# Altium schematic symbol library Arkx.SchLib: 534 symbols (part 4 of 5)
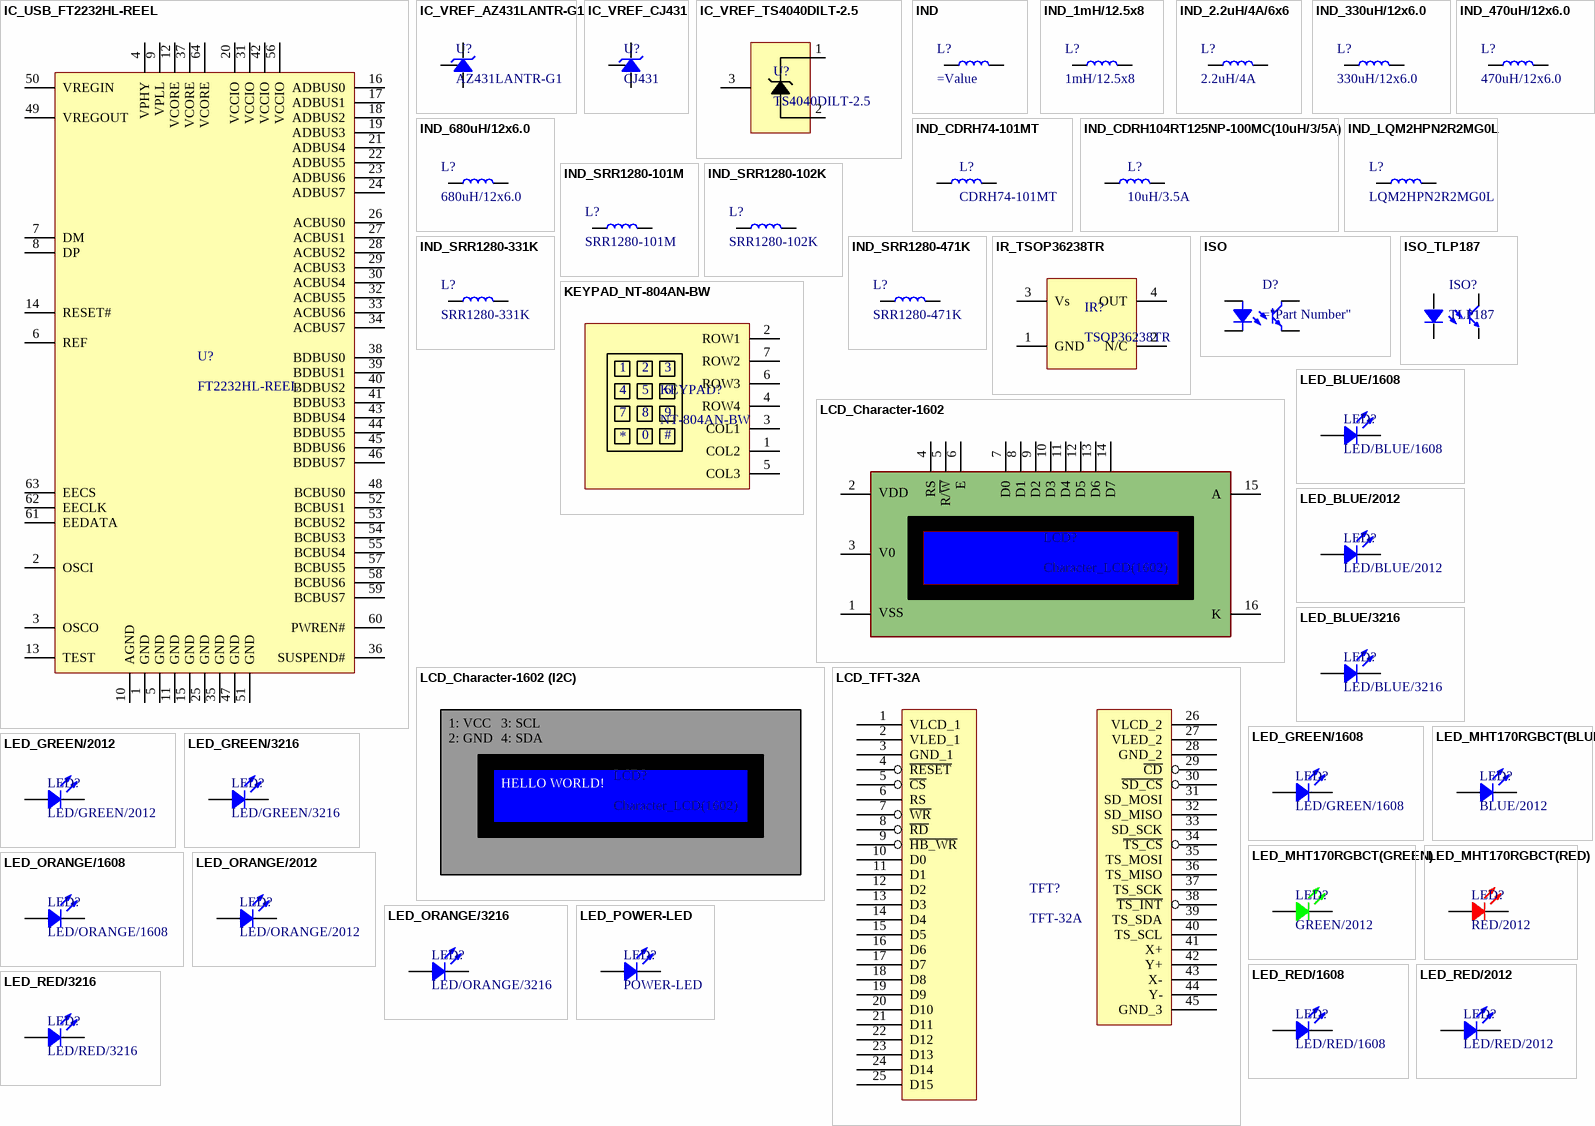
[diagram p28: symbols IC_USB_FT2232HL-REEL to LED_RED/3216]

## LED_GREEN/2012
designator LED?, comment LED/GREEN/2012
LED_GREEN/2012; Supplier 1: Mouser; Supplier 2: Digi-Key; Supplier Part Number 1: 710-150080GS75000; Supplier Part Number 2: 732-4983-1-ND
footprint LED 0805_2012 GREEN (Chip Diode, 2-Leads, Body 2.00x1.25mm, IPC Medium Density)
pins: 1, 2

## LED_GREEN/3216
designator LED?, comment LED/GREEN/3216
LED_GREEN/3216; Supplier 1: Mouser; Supplier 2: Digi-Key; Supplier Part Number 1: 710-150120GS75000; Supplier Part Number 2: 732-4990-1-ND; LCSC Part #: C14641; JLCPCB Part Type: Extended Part
footprint LED 1206_3216 GREEN (Chip Diode, 2-Leads, Body 3.13x1.55mm, IPC Medium Density)
pins: 1, 2

## LED_MHT170RGBCT(BLUE)
designator LED?, comment BLUE/2012
Colorless transparence -30℃~+85℃ Positive post Common anode RGB 120° 0805  Light Emitting Diodes (LED) ROHS; LCSC Part #: C2962094; JLCPCB Part Type: Extended Part
footprint LED MHT170RGBCT (BLUE) (Colorless transparence -30℃~+85℃ Positive post Common anode RGB 120° 0805  Light Emitting Diodes (LED) ROHS)
pins: 3 BLUE, 4 Common_Anode

## LED_MHT170RGBCT(GREEN)
designator LED?, comment GREEN/2012
Colorless transparence -30℃~+85℃ Positive post Common anode RGB 120° 0805  Light Emitting Diodes (LED) ROHS; LCSC Part #: C2962094; JLCPCB Part Type: Extended Part
footprint LED MHT170RGBCT (GREEN) (Colorless transparence -30℃~+85℃ Positive post Common anode RGB 120° 0805  Light Emitting Diodes (LED) ROHS)
pins: 2 GREEN, 4 Common_Anode

## LED_MHT170RGBCT(RED)
designator LED?, comment RED/2012
Colorless transparence -30℃~+85℃ Positive post Common anode RGB 120° 0805  Light Emitting Diodes (LED) ROHS; LCSC Part #: C2962094; JLCPCB Part Type: Extended Part
footprint LED MHT170RGBCT (RED) (Colorless transparence -30℃~+85℃ Positive post Common anode RGB 120° 0805  Light Emitting Diodes (LED) ROHS)
pins: 1 RED, 4 Common_Anode

## LED_ORANGE/1608
designator LED?, comment LED/ORANGE/1608
LED_ORANGE/1608; Supplier 1: Mouser; Supplier 2: Digi-Key; Supplier Part Number 1: 710-150060AS75000; Supplier Part Number 2: 732-150060AS75000CT-ND
footprint LED 0603_1608 YELLOW (Chip Diode, 2-Leads, Body 1.60x0.80mm, IPC Medium Density)
pins: 1, 2

## LED_ORANGE/2012
designator LED?, comment LED/ORANGE/2012
LED_ORANGE/2012; Supplier 1: Mouser; Supplier 2: Digi-Key; Supplier Part Number 1: 710-150080AS75000; Supplier Part Number 2: 732-150080AS75000CT-ND
footprint LED 0805_2012 YELLOW (Chip Diode, 2-Leads, Body 2.00x1.25mm, IPC Medium Density)
pins: 1, 2

## LED_ORANGE/3216
designator LED?, comment LED/ORANGE/3216
LED_ORANGE/3216; Supplier 1: Mouser; Supplier 2: Digi-Key; Supplier Part Number 1: 710-150120AS75000; Supplier Part Number 2: 732-4988-1-ND
footprint LED 1206_3216 YELLOW (Chip Diode, 2-Leads, Body 3.13x1.55mm, IPC Medium Density)
pins: 1, 2

## LED_POWER-LED
designator LED?, comment POWER-LED
pins: 1, 2

## LED_RED/1608
designator LED?, comment LED/RED/1608
LED_RED/1608; Supplier 1: Mouser; Supplier 2: Digi-Key; Supplier Part Number 1: 710-150060RS75000; Supplier Part Number 2: 732-4978-1-ND; LCSC Part #: C2286; JLCPCB Part Type: Basic Part
footprint LED 0603_1608 RED (Chip Diode, 2-Leads, Body 1.60x0.80mm, IPC Medium Density)
pins: 1, 2

## LED_RED/2012
designator LED?, comment LED/RED/2012
LED_RED/2012; Supplier 1: Mouser; Supplier 2: Digi-Key; Supplier Part Number 1: 710-150080RS75000; Supplier Part Number 2: 732-4984-1-ND
footprint LED 0805_2012 RED (Chip Diode, 2-Leads, Body 2.00x1.25mm, IPC Medium Density)
pins: 1, 2

## LED_RED/3216
designator LED?, comment LED/RED/3216
LED_RED/3216; Supplier 1: Mouser; Supplier 2: Digi-Key; Supplier Part Number 1: 710-150120RS75000; Supplier Part Number 2: 732-4991-1-ND; LCSC Part #: C49018; JLCPCB Part Type: Extended Part
footprint LED 1206_3216 RED (Chip Diode, 2-Leads, Body 3.13x1.55mm, IPC Medium Density)
pins: 1, 2

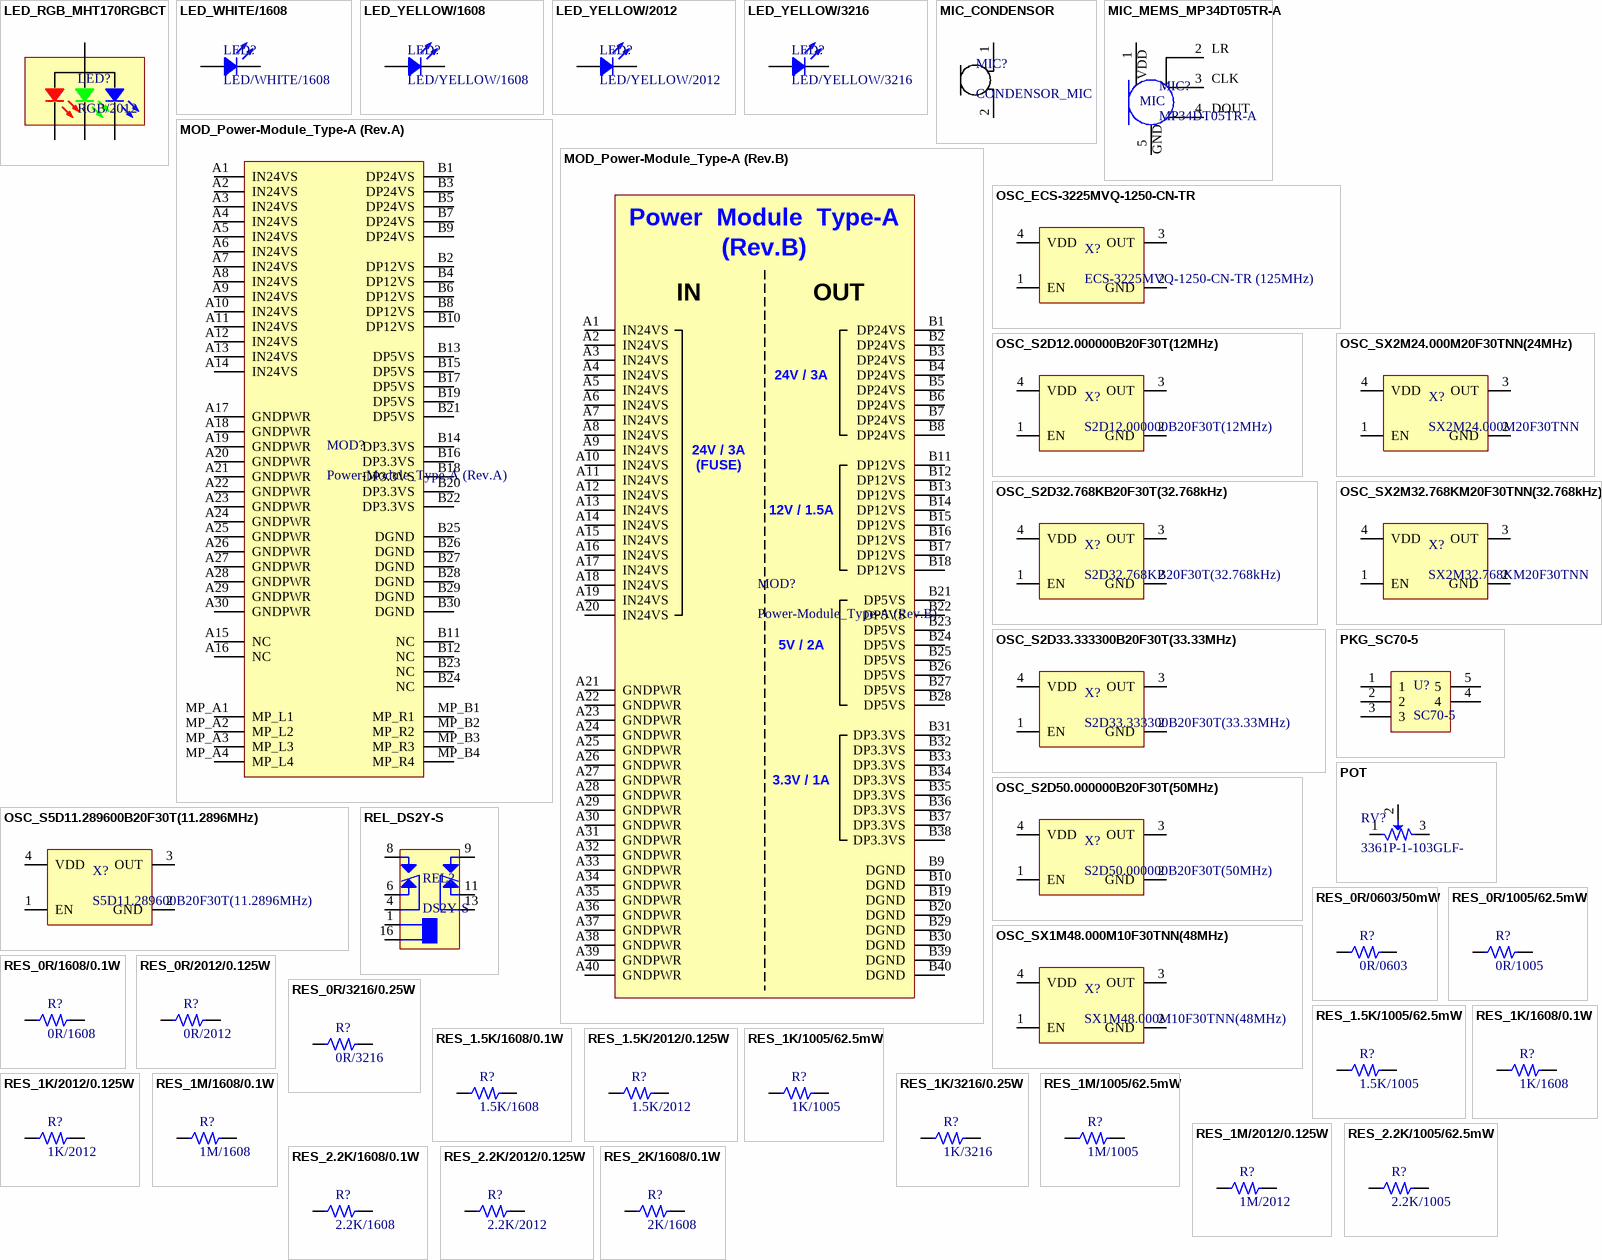
[diagram p21: symbols LED_RGB_MHT170RGBCT to RES_2K/1608/0.1W]

## LED_RGB_MHT170RGBCT
designator LED?, comment RGB/2012
Colorless transparence -30℃~+85℃ Positive post Common anode RGB 120° 0805  Light Emitting Diodes (LED) ROHS; LCSC Part #: C2962094; JLCPCB Part Type: Extended Part
footprint LED MHT170RGBCT (Colorless transparence -30℃~+85℃ Positive post Common anode RGB 120° 0805  Light Emitting Diodes (LED) ROHS)
pins: 1 RED, 2 GREEN, 3 BLUE, 4 Common_Anode

## LED_WHITE/1608
designator LED?, comment LED/WHITE/1608
LED_WHITE/1608; LCSC Part #: C2290; JLCPCB Part Type: Basic Part
footprint LED 0603_1608 BLUE (Chip Diode, 2-Leads, Body 1.60x0.80mm, IPC Medium Density)
pins: 1, 2

## LED_YELLOW/1608
designator LED?, comment LED/YELLOW/1608
LED_YELLOW/1608; Supplier 1: Mouser; Supplier 2: Digi-Key; Supplier Part Number 1: 710-150060YS75000; Supplier Part Number 2: 732-4981-1-ND
footprint LED 0603_1608 YELLOW (Chip Diode, 2-Leads, Body 1.60x0.80mm, IPC Medium Density)
pins: 1, 2

## LED_YELLOW/2012
designator LED?, comment LED/YELLOW/2012
LED_YELLOW/2012; LCSC Part #: C2296; JLCPCB Part Type: Basic Part
footprint LED 0805_2012 YELLOW (Chip Diode, 2-Leads, Body 2.00x1.25mm, IPC Medium Density)
pins: 1, 2

## LED_YELLOW/3216
designator LED?, comment LED/YELLOW/3216
LED_YELLOW/3216; Supplier 1: Mouser; Supplier 2: Digi-Key; Supplier Part Number 1: 710-150120YS75000; Supplier Part Number 2: 732-4994-1-ND
footprint LED 1206_3216 YELLOW (Chip Diode, 2-Leads, Body 3.13x1.55mm, IPC Medium Density)
pins: 1, 2

## MIC_CONDENSOR
designator MIC?, comment CONDENSOR_MIC
pins: 1 +, 2 -

## MIC_MEMS_MP34DT05TR-A
designator MIC?, comment MP34DT05TR-A
1.8V Omnidirectional 650uA -26dB 64dB SMD  MEMS Microphones ROHS; LCSC Part #: C2688664; JLCPCB Part Type: Extended Part
footprint MEMS HCLGA-5(3x4) (HCLGA-5(3x4)_MEMS Part)
pins: 1 VDD, 2 LR, 3 CLK, 4 DOUT, 5 GND
text: MIC

## MOD_Power-Module_Type-A (Rev.A)
designator MOD?, comment Power-Module_Type-A (Rev.A)
footprint MOD_Power-Module_Type-A (Rev.A)
pins: A1 IN24VS, A2 IN24VS, A3 IN24VS, A4 IN24VS, A5 IN24VS, A6 IN24VS, A7 IN24VS, A8 IN24VS, A9 IN24VS, A10 IN24VS, A11 IN24VS, A12 IN24VS, A13 IN24VS, A14 IN24VS, A15 NC, A16 NC, A17 GNDPWR, A18 GNDPWR, A19 GNDPWR, A20 GNDPWR, A21 GNDPWR, A22 GNDPWR, A23 GNDPWR, A24 GNDPWR, A25 GNDPWR, A26 GNDPWR, A27 GNDPWR, A28 GNDPWR, A29 GNDPWR, A30 GNDPWR, B1 DP24VS, B2 DP12VS, B3 DP24VS, B4 DP12VS, B5 DP24VS, B6 DP12VS, B7 DP24VS, B8 DP12VS, B9 DP24VS, B10 DP12VS, B11 NC, B12 NC, B13 DP5VS, B14 DP3.3VS, B15 DP5VS, B16 DP3.3VS, B17 DP5VS, B18 DP3.3VS, B19 DP5VS, B20 DP3.3VS, B21 DP5VS, B22 DP3.3VS, B23 NC, B24 NC, B25 DGND, B26 DGND, B27 DGND, B28 DGND, B29 DGND, B30 DGND, MP_A1 MP_L1, MP_A2 MP_L2, MP_A3 MP_L3, MP_A4 MP_L4, MP_B1 MP_R1, MP_B2 MP_R2, MP_B3 MP_R3, MP_B4 MP_R4

## MOD_Power-Module_Type-A (Rev.B)
designator MOD?, comment Power-Module_Type-A (Rev.B)
Power-Module_(Type-A / Rev.B)
footprint MOD_Power-Module_Type-A (Rev.B)
pins: A1 IN24VS, A2 IN24VS, A3 IN24VS, A4 IN24VS, A5 IN24VS, A6 IN24VS, A7 IN24VS, A8 IN24VS, A9 IN24VS, A10 IN24VS, A11 IN24VS, A12 IN24VS, A13 IN24VS, A14 IN24VS, A15 IN24VS, A16 IN24VS, A17 IN24VS, A18 IN24VS, A19 IN24VS, A20 IN24VS, A21 GNDPWR, A22 GNDPWR, A23 GNDPWR, A24 GNDPWR, A25 GNDPWR, A26 GNDPWR, A27 GNDPWR, A28 GNDPWR, A29 GNDPWR, A30 GNDPWR, A31 GNDPWR, A32 GNDPWR, A33 GNDPWR, A34 GNDPWR, A35 GNDPWR, A36 GNDPWR, A37 GNDPWR, A38 GNDPWR, A39 GNDPWR, A40 GNDPWR, B1 DP24VS, B2 DP24VS, B3 DP24VS, B4 DP24VS, B5 DP24VS, B6 DP24VS, B7 DP24VS, B8 DP24VS, B9 DGND, B10 DGND, B11 DP12VS, B12 DP12VS, B13 DP12VS, B14 DP12VS, B15 DP12VS, B16 DP12VS, B17 DP12VS, B18 DP12VS, B19 DGND, B20 DGND, B21 DP5VS, B22 DP5VS, B23 DP5VS, B24 DP5VS, B25 DP5VS, B26 DP5VS, B27 DP5VS, B28 DP5VS, B29 DGND, B30 DGND, B31 DP3.3VS, B32 DP3.3VS, B33 DP3.3VS, B34 DP3.3VS, B35 DP3.3VS, B36 DP3.3VS, B37 DP3.3VS, B38 DP3.3VS, B39 DGND, B40 DGND
text: Power  Module  Type-A; (Rev.B); IN; OUT; 24V / 3A; (FUSE); 12V / 1.5A; 5V / 2A; 3.3V / 1A

## OSC_ECS-3225MVQ-1250-CN-TR
designator X?, comment ECS-3225MVQ-1250-CN-TR (125MHz)
XTAL OSC XO 125.0000MHZ ±25ppm CMOS SMD; LCSC Part #: C2595934; JLCPCB Part Type: Extended Part
pins: 1 EN, 2 GND, 3 OUT, 4 VDD

## OSC_S2D12.000000B20F30T(12MHz)
designator X?, comment S2D12.000000B20F30T(12MHz)
3.3V~3.3V -40℃~+85℃ 20mA ±20ppm 12MHz SMD2520-4P  Oscillators ROHS; LCSC Part #: C387449; JLCPCB Part Type: Extended Part
footprint OSC SMD_2.5x2.0 (SCTF) (SMD Oscillator_2.5x2.0 (SCTF))
pins: 1 EN, 2 GND, 3 OUT, 4 VDD

## OSC_S2D32.768KB20F30T(32.768kHz)
designator X?, comment S2D32.768KB20F30T(32.768kHz)
3.3V ±20ppm CMOS 32.768kHz SMD2520-4P  Oscillators ROHS; LCSC Part #: C387463; JLCPCB Part Type: Extended Part
footprint OSC SMD_2.5x2.0 (SCTF) (SMD Oscillator_2.5x2.0 (SCTF))
pins: 1 EN, 2 GND, 3 OUT, 4 VDD

## OSC_S2D33.333300B20F30T(33.33MHz)
designator X?, comment S2D33.333300B20F30T(33.33MHz)
3.3V ±20ppm CMOS 33.3333MHz SMD2520-4P  Oscillators ROHS; LCSC Part #: C907622; JLCPCB Part Type: Extended Part
footprint OSC SMD_2.5x2.0 (SCTF) (SMD Oscillator_2.5x2.0 (SCTF))
pins: 1 EN, 2 GND, 3 OUT, 4 VDD

## OSC_S2D50.000000B20F30T(50MHz)
designator X?, comment S2D50.000000B20F30T(50MHz)
3.3V 20mA ±30ppm CMOS 50MHz SMD2520-4P  Oscillators ROHS; LCSC Part #: C907626; JLCPCB Part Type: Extended Part
footprint OSC SMD_2.5x2.0 (SCTF) (SMD Oscillator_2.5x2.0 (SCTF))
pins: 1 EN, 2 GND, 3 OUT, 4 VDD

## OSC_S5D11.289600B20F30T(11.2896MHz)
designator X?, comment S5D11.289600B20F30T(11.2896MHz)
3.3V~3.3V -40℃~+85℃ 20mA ±20ppm 11.2896MHz SMD5032-4P  Oscillators ROHS; LCSC Part #: C387217; JLCPCB Part Type: Extended Part
footprint OSC SMD_5.0x3.2 (SCTF) (SMD Oscillator_5.0x3.2 (SCTF))
pins: 1 EN, 2 GND, 3 OUT, 4 VDD

## OSC_SX1M48.000M10F30TNN(48MHz)
designator X?, comment SX1M48.000M10F30TNN(48MHz)
1.62V~3.63V ±10ppm CMOS 48MHz SMD2016-4P  Oscillators ROHS; LCSC Part #: C2901617; JLCPCB Part Type: Extended Part
footprint OSC_SMD2016-4P (SMD2016-4P)
pins: 1 EN, 2 GND, 3 OUT, 4 VDD

## OSC_SX2M24.000M20F30TNN(24MHz)
designator X?, comment SX2M24.000M20F30TNN
1.62V~3.63V ±20ppm 10mA ±30ppm CMOS 24MHz SMD2520-4P  Crystal Oscillators ROHS; LCSC Part #: C2901600; JLCPCB Part Type: Extended Part
footprint OSC SMD_2.5x2.0 (SCTF) (SMD Oscillator_2.5x2.0 (SCTF))
pins: 1 EN, 2 GND, 3 OUT, 4 VDD

## OSC_SX2M32.768KM20F30TNN(32.768kHz)
designator X?, comment SX2M32.768KM20F30TNN
1.62V~3.63V ±20ppm 90uA ±30ppm CMOS 32.768kHz SMD2520-4P  Crystal Oscillators ROHS; LCSC Part #: C2901603; JLCPCB Part Type: Extended Part
footprint OSC SMD_2.5x2.0 (SCTF) (SMD Oscillator_2.5x2.0 (SCTF))
pins: 1 EN, 2 GND, 3 OUT, 4 VDD

## PKG_SC70-5
designator U?, comment SC70-5
Symbol of SC70-5
footprint SC-70-5 (Temperature Sensor Analog - Local -50캜 ~ 150캜 13.6mV, 5 Leads, Body 2.1x2mm, Pitch 0.65mm, Package SOT-353)
pins: 1, 2, 3, 4, 5

## POT
designator RV?, comment 3361P-1-103GLF-
10 kOhms 0.5W, 1/2W Gull Wing Surface Mount Trimmer Potentiometer Cermet 1 Turn Top Adjustment; Manufacturer: Bourns; Alternate Part Number-1: NA; Manufacturer Part Number: 3361P-1-103GLF; Case/Package: SMD; Supplier-1: Mouser; Supplier Part Number-1: 652-3361P-1-103GLF
footprint POT_3361P_SMD
pins: 1, 2, 3

## REL_DS2Y-S
designator REL?, comment DS2Y-S
RELAY GEN PURPOSE DPDT 2A 24VDC
pins: 1, 4, 6, 8, 9, 11, 13, 16

## RES_0R/0603/50mW
designator R?, comment 0R/0603
50mW Thick Film Resistors 25V ±1% 0Ω 0201  Chip Resistor - Surface Mount ROHS; Value: 0R; Size: 0603; Power Rating: 50mW; Precision: 1%; LCSC Part #: C106227; JLCPCB Part Type: Extended Part
footprint RES 0603 (0201_inch) (Chip Resistor, 2-Leads, Body 0.60x0.30mm, IPC Medium Density)
pins: 1, 2

## RES_0R/1005/62.5mW
designator R?, comment 0R/1005
RES_0R/1005/62.5mW; Value: 0R; Power Rating: 62.5mW; Precision: 1%; Size: 1005; LCSC Part #: C17168; JLCPCB Part Type: Basic Part
footprint RES 1005 (0402_inch) (Chip Resistor, 2-Leads, Body 1.0x0.5mm, IPC Medium Density)
pins: 1, 2

## RES_0R/1608/0.1W
designator R?, comment 0R/1608
RES_0R/1608/0.1W; Value: 0R; Power Rating: 0.1W; Precision: 1%; Size: 1608; LCSC Part #: C21189; JLCPCB Part Type: Basic Part
footprint RES 1608 (0603_inch) (Chip Resistor, 2-Leads, Body 1.60x0.80mm, IPC Medium Density)
pins: 1, 2

## RES_0R/2012/0.125W
designator R?, comment 0R/2012
RES_0R/2012/0.125W; Value: 0R; Power Rating: 0.125W; Precision: 1%; Size: 2012; LCSC Part #: C17477; JLCPCB Part Type: Basic Part
footprint RES 2012 (0805_inch) (Chip Resistor, 2-Leads, Body 2.00x1.25mm, IPC Medium Density)
pins: 1, 2

## RES_0R/3216/0.25W
designator R?, comment 0R/3216
RES_0R/3216/0.25W; Power Rating: 0.1W; Precision: 1%; Size: 1608; LCSC Part #: C17888; JLCPCB Part Type: Basic Part
footprint RES 3216 (1206_inch) (Chip Resistor, 2-Leads, Body 3.13x1.55mm, IPC Medium Density)
pins: 1, 2

## RES_1.5K/1005/62.5mW
designator R?, comment 1.5K/1005
RES_1.5K/1005/62.5mW; Value: 1.5K; Power Rating: 62.5mW; Precision: 1%; Size: 1005; LCSC Part #: C25867; JLCPCB Part Type: Basic Part
footprint RES 1005 (0402_inch) (Chip Resistor, 2-Leads, Body 1.0x0.5mm, IPC Medium Density)
pins: 1, 2

## RES_1.5K/1608/0.1W
designator R?, comment 1.5K/1608
RES_1.5K/1608/0.1W; Value: 1.5K; Power Rating: 0.1W; Precision: 1%; Size: 1608; LCSC Part #: C22843; JLCPCB Part Type: Basic Part
footprint RES 1608 (0603_inch) (Chip Resistor, 2-Leads, Body 1.60x0.80mm, IPC Medium Density)
pins: 1, 2

## RES_1.5K/2012/0.125W
designator R?, comment 1.5K/2012
RES_1.5K/2012/0.125W; Value: 1.5K; Power Rating: 0.125W; Precision: 1%; Size: 2012; LCSC Part #: C4310; JLCPCB Part Type: Basic Part
footprint RES 2012 (0805_inch) (Chip Resistor, 2-Leads, Body 2.00x1.25mm, IPC Medium Density)
pins: 1, 2

## RES_1K/1005/62.5mW
designator R?, comment 1K/1005
RES_1K/1005/62.5mW; Value: 1K; Power Rating: 62.5mW; Precision: 1%; Size: 1005; LCSC Part #: C11702; JLCPCB Part Type: Basic Part
footprint RES 1005 (0402_inch) (Chip Resistor, 2-Leads, Body 1.0x0.5mm, IPC Medium Density)
pins: 1, 2

## RES_1K/1608/0.1W
designator R?, comment 1K/1608
RES_1K/1608/0.1W; Value: 1K; Power Rating: 0.1W; Precision: 1%; Size: 1608; LCSC Part #: C21190; JLCPCB Part Type: Basic Part
footprint RES 1608 (0603_inch) (Chip Resistor, 2-Leads, Body 1.60x0.80mm, IPC Medium Density)
pins: 1, 2

## RES_1K/2012/0.125W
designator R?, comment 1K/2012
RES_1K/2012/0.125W; Value: 1K; Power Rating: 0.125W; Precision: 1%; Size: 2012; LCSC Part #: C17513; JLCPCB Part Type: Basic Part
footprint RES 2012 (0805_inch) (Chip Resistor, 2-Leads, Body 2.00x1.25mm, IPC Medium Density)
pins: 1, 2

## RES_1K/3216/0.25W
designator R?, comment 1K/3216
RES_1K/3216/0.25W; Value: 1K; Power Rating: 0.1W; Precision: 1%; Size: 1608; LCSC Part #: C4410; JLCPCB Part Type: Basic Part
footprint RES 3216 (1206_inch) (Chip Resistor, 2-Leads, Body 3.13x1.55mm, IPC Medium Density)
pins: 1, 2

## RES_1M/1005/62.5mW
designator R?, comment 1M/1005
RES_1M/1005/62.5mW; Value: 1M; Power Rating: 62.5mW; Precision: 1%; Size: 1005; LCSC Part #: C26083; JLCPCB Part Type: Basic Part
footprint RES 1005 (0402_inch) (Chip Resistor, 2-Leads, Body 1.0x0.5mm, IPC Medium Density)
pins: 1, 2

## RES_1M/1608/0.1W
designator R?, comment 1M/1608
RES_1M/1608/0.1W; Value: 1M; Power Rating: 0.1W; Precision: 1%; Size: 1608; LCSC Part #: C22935; JLCPCB Part Type: Basic Part
footprint RES 1608 (0603_inch) (Chip Resistor, 2-Leads, Body 1.60x0.80mm, IPC Medium Density)
pins: 1, 2

## RES_1M/2012/0.125W
designator R?, comment 1M/2012
RES_1M/2012/0.125W; Value: 1M; Power Rating: 0.125W; Precision: 1%; Size: 2012; LCSC Part #: C17514; JLCPCB Part Type: Basic Part
footprint RES 2012 (0805_inch) (Chip Resistor, 2-Leads, Body 2.00x1.25mm, IPC Medium Density)
pins: 1, 2

## RES_2.2K/1005/62.5mW
designator R?, comment 2.2K/1005
RES_2.2K/1005/62.5mW; Value: 2.2K; Power Rating: 62.5mW; Precision: 1%; Size: 1005; LCSC Part #: C25879; JLCPCB Part Type: Basic Part
footprint RES 1005 (0402_inch) (Chip Resistor, 2-Leads, Body 1.0x0.5mm, IPC Medium Density)
pins: 1, 2

## RES_2.2K/1608/0.1W
designator R?, comment 2.2K/1608
RES_2.2K/1608/0.1W; Value: 2.2K; Power Rating: 0.1W; Precision: 1%; Size: 1608; LCSC Part #: C4190; JLCPCB Part Type: Basic Part
footprint RES 1608 (0603_inch) (Chip Resistor, 2-Leads, Body 1.60x0.80mm, IPC Medium Density)
pins: 1, 2

## RES_2.2K/2012/0.125W
designator R?, comment 2.2K/2012
RES_2.2K/2012/0.125W; Value: 2.2K; Power Rating: 0.125W; Precision: 1%; Size: 2012; LCSC Part #: C17520; JLCPCB Part Type: Basic Part
footprint RES 2012 (0805_inch) (Chip Resistor, 2-Leads, Body 2.00x1.25mm, IPC Medium Density)
pins: 1, 2

## RES_2K/1608/0.1W
designator R?, comment 2K/1608
RES_2K/1608/0.1W; Value: 2K; Power Rating: 0.1W; Precision: 1%; Size: 1608; LCSC Part #: C22975; JLCPCB Part Type: Basic Part
footprint RES 1608 (0603_inch) (Chip Resistor, 2-Leads, Body 1.60x0.80mm, IPC Medium Density)
pins: 1, 2

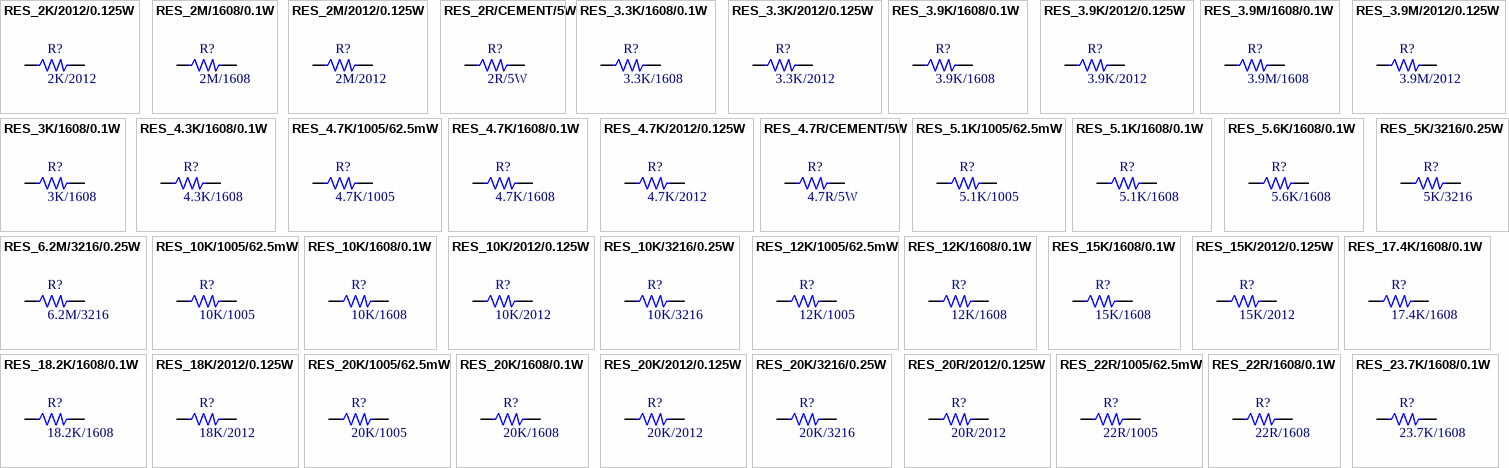
[diagram p22: symbols RES_2K/2012/0.125W to RES_23.7K/1608/0.1W]

## RES_2K/2012/0.125W
designator R?, comment 2K/2012
RES_2K/2012/0.125W; Value: 2K; Power Rating: 0.125W; Precision: 1%; Size: 2012; LCSC Part #: C17604; JLCPCB Part Type: Basic Part
footprint RES 2012 (0805_inch) (Chip Resistor, 2-Leads, Body 2.00x1.25mm, IPC Medium Density)
pins: 1, 2

## RES_2M/1608/0.1W
designator R?, comment 2M/1608
RES_2M/1608/0.1W; Value: 2M; Power Rating: 0.1W; Precision: 1%; Size: 1608; LCSC Part #: C22976; JLCPCB Part Type: Basic Part
footprint RES 1608 (0603_inch) (Chip Resistor, 2-Leads, Body 1.60x0.80mm, IPC Medium Density)
pins: 1, 2

## RES_2M/2012/0.125W
designator R?, comment 2M/2012
RES_2M/2012/0.125W; Value: 2M; Power Rating: 0.125W; Precision: 1%; Size: 2012; LCSC Part #: C26112; JLCPCB Part Type: Basic Part
footprint RES 2012 (0805_inch) (Chip Resistor, 2-Leads, Body 2.00x1.25mm, IPC Medium Density)
pins: 1, 2

## RES_2R/CEMENT/5W
designator R?, comment 2R/5W
2R/CEMENT/5W; Value: 2R; Power Rating: 5W; Size: CEMENT
pins: 1, 2

## RES_3.3K/1608/0.1W
designator R?, comment 3.3K/1608
RES_3.3K/1608/0.1W; Value: 3.3K; Power Rating: 0.1W; Precision: 1%; Size: 1608; LCSC Part #: C22978; JLCPCB Part Type: Basic Part
footprint RES 1608 (0603_inch) (Chip Resistor, 2-Leads, Body 1.60x0.80mm, IPC Medium Density)
pins: 1, 2

## RES_3.3K/2012/0.125W
designator R?, comment 3.3K/2012
RES_3.3K/2012/0.125W; Value: 3.3K; Power Rating: 0.125W; Precision: 1%; Size: 2012; LCSC Part #: C26010; JLCPCB Part Type: Basic Part
footprint RES 2012 (0805_inch) (Chip Resistor, 2-Leads, Body 2.00x1.25mm, IPC Medium Density)
pins: 1, 2

## RES_3.9K/1608/0.1W
designator R?, comment 3.9K/1608
RES_3.9K/1608/0.1W; Value: 3.9K; Power Rating: 0.1W; Precision: 1%; Size: 1608; LCSC Part #: C23018; JLCPCB Part Type: Basic Part
footprint RES 1608 (0603_inch) (Chip Resistor, 2-Leads, Body 1.60x0.80mm, IPC Medium Density)
pins: 1, 2

## RES_3.9K/2012/0.125W
designator R?, comment 3.9K/2012
RES_3.9K/2012/0.125W; Value: 3.9K; Power Rating: 0.125W; Precision: 1%; Size: 2012; LCSC Part #: C17614; JLCPCB Part Type: Basic Part
footprint RES 2012 (0805_inch) (Chip Resistor, 2-Leads, Body 2.00x1.25mm, IPC Medium Density)
pins: 1, 2

## RES_3.9M/1608/0.1W
designator R?, comment 3.9M/1608
RES_3.9M/1608/0.1W; Value: 3.9M; Power Rating: 0.1W; Precision: 1%; Size: 1608; LCSC Part #: C227875; JLCPCB Part Type: Extended Part
footprint RES 1608 (0603_inch) (Chip Resistor, 2-Leads, Body 1.60x0.80mm, IPC Medium Density)
pins: 1, 2

## RES_3.9M/2012/0.125W
designator R?, comment 3.9M/2012
RES_3.9M/2012/0.125W; Value: 3.9M; Power Rating: 0.125W; Precision: 1%; Size: 2012; LCSC Part #: C185273; JLCPCB Part Type: Extended Part
footprint RES 2012 (0805_inch) (Chip Resistor, 2-Leads, Body 2.00x1.25mm, IPC Medium Density)
pins: 1, 2

## RES_3K/1608/0.1W
designator R?, comment 3K/1608
RES_3K/1608/0.1W; Value: 3K; Power Rating: 0.1W; Precision: 1%; Size: 1608; LCSC Part #: C4211; JLCPCB Part Type: Basic Part
footprint RES 1608 (0603_inch) (Chip Resistor, 2-Leads, Body 1.60x0.80mm, IPC Medium Density)
pins: 1, 2

## RES_4.3K/1608/0.1W
designator R?, comment 4.3K/1608
RES_4.3K/1608/0.1W; Value: 4.3K; Power Rating: 0.1W; Precision: 1%; Size: 1608; LCSC Part #: C23159; JLCPCB Part Type: Basic Part
footprint RES 1608 (0603_inch) (Chip Resistor, 2-Leads, Body 1.60x0.80mm, IPC Medium Density)
pins: 1, 2

## RES_4.7K/1005/62.5mW
designator R?, comment 4.7K/1005
RES_4.7K/1005/62.5mW; Value: 4.7K; Power Rating: 62.5mW; Precision: 1%; Size: 1005; LCSC Part #: C25900; JLCPCB Part Type: Basic Part
footprint RES 1005 (0402_inch) (Chip Resistor, 2-Leads, Body 1.0x0.5mm, IPC Medium Density)
pins: 1, 2

## RES_4.7K/1608/0.1W
designator R?, comment 4.7K/1608
RES_4.7K/1608/0.1W; Value: 4.7K; Power Rating: 0.1W; Precision: 1%; Size: 1608; LCSC Part #: C23162; JLCPCB Part Type: Basic Part
footprint RES 1608 (0603_inch) (Chip Resistor, 2-Leads, Body 1.60x0.80mm, IPC Medium Density)
pins: 1, 2

## RES_4.7K/2012/0.125W
designator R?, comment 4.7K/2012
RES_4.7K/2012/0.125W; Value: 4.7K; Power Rating: 0.125W; Precision: 1%; Size: 2012; LCSC Part #: C17673; JLCPCB Part Type: Basic Part
footprint RES 2012 (0805_inch) (Chip Resistor, 2-Leads, Body 2.00x1.25mm, IPC Medium Density)
pins: 1, 2

## RES_4.7R/CEMENT/5W
designator R?, comment 4.7R/5W
4.7R/CEMENT/5W; Value: 4.7R; Power Rating: 5W; Size: CEMENT
pins: 1, 2

## RES_5.1K/1005/62.5mW
designator R?, comment 5.1K/1005
RES_5.1K/1005/62.5mW; Value: 5.1K; Power Rating: 62.5mW; Precision: 1%; Size: 1005; LCSC Part #: C25905; JLCPCB Part Type: Basic Part
footprint RES 1005 (0402_inch) (Chip Resistor, 2-Leads, Body 1.0x0.5mm, IPC Medium Density)
pins: 1, 2

## RES_5.1K/1608/0.1W
designator R?, comment 5.1K/1608
RES_5.1K/1608/0.1W; Value: 5.1K; Power Rating: 0.1W; Precision: 1%; Size: 1608; LCSC Part #: C23186; JLCPCB Part Type: Basic Part
footprint RES 1608 (0603_inch) (Chip Resistor, 2-Leads, Body 1.60x0.80mm, IPC Medium Density)
pins: 1, 2

## RES_5.6K/1608/0.1W
designator R?, comment 5.6K/1608
RES_5.6K/1608/0.1W; Value: 5.6K; Power Rating: 0.1W; Precision: 1%; Size: 1608; LCSC Part #: C23189; JLCPCB Part Type: Basic Part
footprint RES 1608 (0603_inch) (Chip Resistor, 2-Leads, Body 1.60x0.80mm, IPC Medium Density)
pins: 1, 2

## RES_5K/3216/0.25W
designator R?, comment 5K/3216
RES_5K/3216/0.25W; Value: 10K; Power Rating: 0.1W; Precision: 1%; Size: 1608; LCSC Part #: C26044; JLCPCB Part Type: Extended Part
footprint RES 3216 (1206_inch) (Chip Resistor, 2-Leads, Body 3.13x1.55mm, IPC Medium Density)
pins: 1, 2

## RES_6.2M/3216/0.25W
designator R?, comment 6.2M/3216
RES_6.2M/3216/0.25W; Value: 6.2M; Power Rating: 0.25W; Precision: 1%; Size: 3216; LCSC Part #: C407258; JLCPCB Part Type: Extended Part
footprint RES 3216 (1206_inch) (Chip Resistor, 2-Leads, Body 3.13x1.55mm, IPC Medium Density)
pins: 1, 2

## RES_10K/1005/62.5mW
designator R?, comment 10K/1005
RES_10K/1005/62.5mW; Value: 10K; Power Rating: 62.5mW; Precision: 1%; Size: 1005; LCSC Part #: C25744; JLCPCB Part Type: Basic Part
footprint RES 1005 (0402_inch) (Chip Resistor, 2-Leads, Body 1.0x0.5mm, IPC Medium Density)
pins: 1, 2

## RES_10K/1608/0.1W
designator R?, comment 10K/1608
RES_10K/1608/0.1W; Value: 10K; Power Rating: 0.1W; Precision: 1%; Size: 1608; LCSC Part #: C25804; JLCPCB Part Type: Basic Part
footprint RES 1608 (0603_inch) (Chip Resistor, 2-Leads, Body 1.60x0.80mm, IPC Medium Density)
pins: 1, 2

## RES_10K/2012/0.125W
designator R?, comment 10K/2012
RES_10K/2012/0.125W; Value: 10K; Power Rating: 0.125W; Precision: 1%; Size: 2012; LCSC Part #: C17414; JLCPCB Part Type: Basic Part
footprint RES 2012 (0805_inch) (Chip Resistor, 2-Leads, Body 2.00x1.25mm, IPC Medium Density)
pins: 1, 2

## RES_10K/3216/0.25W
designator R?, comment 10K/3216
RES_10K/3216/0.25W; Value: 10K; Power Rating: 0.1W; Precision: 1%; Size: 1608; LCSC Part #: C17902; JLCPCB Part Type: Basic Part
footprint RES 3216 (1206_inch) (Chip Resistor, 2-Leads, Body 3.13x1.55mm, IPC Medium Density)
pins: 1, 2

## RES_12K/1005/62.5mW
designator R?, comment 12K/1005
RES_12K/1005/62.5mW; Value: 12K; Power Rating: 62.5mW; Precision: 1%; Size: 1005; LCSC Part #: C25752; JLCPCB Part Type: Basic Part
footprint RES 1005 (0402_inch) (Chip Resistor, 2-Leads, Body 1.0x0.5mm, IPC Medium Density)
pins: 1, 2

## RES_12K/1608/0.1W
designator R?, comment 12K/1608
RES_12K/1608/0.1W; Value: 12K; Power Rating: 0.1W; Precision: 1%; Size: 1608; LCSC Part #: C22790; JLCPCB Part Type: Basic Part
footprint RES 1608 (0603_inch) (Chip Resistor, 2-Leads, Body 1.60x0.80mm, IPC Medium Density)
pins: 1, 2

## RES_15K/1608/0.1W
designator R?, comment 15K/1608
RES_15K/1608/0.1W; Value: 15K; Power Rating: 0.1W; Precision: 1%; Size: 1608; LCSC Part #: C22809; JLCPCB Part Type: Basic Part
footprint RES 1608 (0603_inch) (Chip Resistor, 2-Leads, Body 1.60x0.80mm, IPC Medium Density)
pins: 1, 2

## RES_15K/2012/0.125W
designator R?, comment 15K/2012
RES_15K/2012/0.125W; Value: 15K; Power Rating: 0.1W; Precision: 1%; Size: 1608; LCSC Part #: C17475; JLCPCB Part Type: Basic Part
footprint RES 2012 (0805_inch) (Chip Resistor, 2-Leads, Body 2.00x1.25mm, IPC Medium Density)
pins: 1, 2

## RES_17.4K/1608/0.1W
designator R?, comment 17.4K/1608
RES_17.4K/1608/0.1W; Value: 17.4K; Power Rating: 0.1W; Precision: 1%; Size: 1608; LCSC Part #: C185365; JLCPCB Part Type: Extended Part
footprint RES 1608 (0603_inch) (Chip Resistor, 2-Leads, Body 1.60x0.80mm, IPC Medium Density)
pins: 1, 2

## RES_18.2K/1608/0.1W
designator R?, comment 18.2K/1608
RES_18.2K/1608/0.1W; Value: 18.2K; Power Rating: 0.1W; Precision: 1%; Size: 1608; LCSC Part #: C170492; JLCPCB Part Type: Extended Part
footprint RES 1608 (0603_inch) (Chip Resistor, 2-Leads, Body 1.60x0.80mm, IPC Medium Density)
pins: 1, 2

## RES_18K/2012/0.125W
designator R?, comment 18K/2012
RES_18K/2012/0.125W; Value: 18K; Power Rating: 0.125W; Precision: 1%; Size: 2012; LCSC Part #: C17506; JLCPCB Part Type: Basic Part
footprint RES 2012 (0805_inch) (Chip Resistor, 2-Leads, Body 2.00x1.25mm, IPC Medium Density)
pins: 1, 2

## RES_20K/1005/62.5mW
designator R?, comment 20K/1005
RES_20K/1005/62.5mW; Value: 20K; Power Rating: 62.5mW; Precision: 1%; Size: 1005; LCSC Part #: C25765; JLCPCB Part Type: Basic Part
footprint RES 1005 (0402_inch) (Chip Resistor, 2-Leads, Body 1.0x0.5mm, IPC Medium Density)
pins: 1, 2

## RES_20K/1608/0.1W
designator R?, comment 20K/1608
RES_20K/1608/0.1W; Value: 20K; Power Rating: 0.1W; Precision: 1%; Size: 1608; LCSC Part #: C4184; JLCPCB Part Type: Basic Part
footprint RES 1608 (0603_inch) (Chip Resistor, 2-Leads, Body 1.60x0.80mm, IPC Medium Density)
pins: 1, 2

## RES_20K/2012/0.125W
designator R?, comment 20K/2012
RES_20K/2012/0.125W; Value: 20K; Power Rating: 0.125W; Precision: 1%; Size: 2012; LCSC Part #: C4328; JLCPCB Part Type: Basic Part
footprint RES 2012 (0805_inch) (Chip Resistor, 2-Leads, Body 2.00x1.25mm, IPC Medium Density)
pins: 1, 2

## RES_20K/3216/0.25W
designator R?, comment 20K/3216
RES_20K/3216/0.25W; Value: 20K; Power Rating: 0.25W; Precision: 1%; Size: 3216; LCSC Part #: C18003; JLCPCB Part Type: Extended Part
footprint RES 3216 (1206_inch) (Chip Resistor, 2-Leads, Body 3.13x1.55mm, IPC Medium Density)
pins: 1, 2

## RES_20R/2012/0.125W
designator R?, comment 20R/2012
RES_20R/2012/0.125W; Value: 20R; Power Rating: 0.125W; Precision: 1%; Size: 2012; LCSC Part #: C17544; JLCPCB Part Type: Basic Part
footprint RES 2012 (0805_inch) (Chip Resistor, 2-Leads, Body 2.00x1.25mm, IPC Medium Density)
pins: 1, 2

## RES_22R/1005/62.5mW
designator R?, comment 22R/1005
RES_22R/1005/62.5mW; Value: 22R; Power Rating: 62.5mW; Precision: 1%; Size: 1005; LCSC Part #: C25092; JLCPCB Part Type: Basic Part
footprint RES 1005 (0402_inch) (Chip Resistor, 2-Leads, Body 1.0x0.5mm, IPC Medium Density)
pins: 1, 2

## RES_22R/1608/0.1W
designator R?, comment 22R/1608
RES_22R/1608/0.1W; Value: 22R; Power Rating: 0.1W; Precision: 1%; Size: 1608; LCSC Part #: C23345; JLCPCB Part Type: Basic Part
footprint RES 1608 (0603_inch) (Chip Resistor, 2-Leads, Body 1.60x0.80mm, IPC Medium Density)
pins: 1, 2

## RES_23.7K/1608/0.1W
designator R?, comment 23.7K/1608
RES_23.7K/1608/0.1W; Value: 23.7K; Power Rating: 0.1W; Precision: 1%; Size: 1608; LCSC Part #: C294653; JLCPCB Part Type: Extended Part
footprint RES 1608 (0603_inch) (Chip Resistor, 2-Leads, Body 1.60x0.80mm, IPC Medium Density)
pins: 1, 2

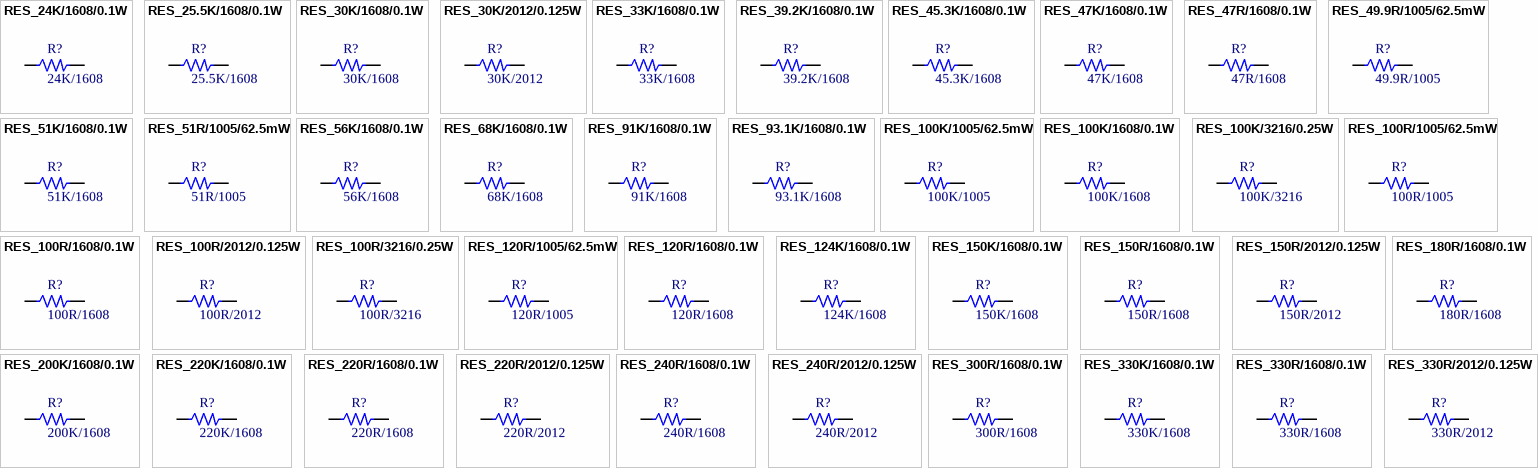
[diagram p23: symbols RES_24K/1608/0.1W to RES_330R/2012/0.125W]

## RES_24K/1608/0.1W
designator R?, comment 24K/1608
RES_24K/1608/0.1W; Value: 24K; Power Rating: 0.1W; Precision: 1%; Size: 1608; LCSC Part #: C23352; JLCPCB Part Type: Basic Part
footprint RES 1608 (0603_inch) (Chip Resistor, 2-Leads, Body 1.60x0.80mm, IPC Medium Density)
pins: 1, 2

## RES_25.5K/1608/0.1W
designator R?, comment 25.5K/1608
RES_25.5K/1608/0.1W; Value: 25.5K; Power Rating: 0.1W; Precision: 1%; Size: 1608; LCSC Part #: C321813; JLCPCB Part Type: Extended Part
footprint RES 1608 (0603_inch) (Chip Resistor, 2-Leads, Body 1.60x0.80mm, IPC Medium Density)
pins: 1, 2

## RES_30K/1608/0.1W
designator R?, comment 30K/1608
RES_30K/1608/0.1W; Value: 30K; Power Rating: 0.1W; Precision: 1%; Size: 1608; LCSC Part #: C22984; JLCPCB Part Type: Basic Part
footprint RES 1608 (0603_inch) (Chip Resistor, 2-Leads, Body 1.60x0.80mm, IPC Medium Density)
pins: 1, 2

## RES_30K/2012/0.125W
designator R?, comment 30K/2012
RES_30K/2012/0.125W; Value: 30K; Power Rating: 0.125W; Precision: 1%; Size: 2012; LCSC Part #: C17621; JLCPCB Part Type: Basic Part
footprint RES 2012 (0805_inch) (Chip Resistor, 2-Leads, Body 2.00x1.25mm, IPC Medium Density)
pins: 1, 2

## RES_33K/1608/0.1W
designator R?, comment 33K/1608
RES_33K/1608/0.1W; Value: 33K; Power Rating: 0.1W; Precision: 1%; Size: 1608; LCSC Part #: C4216; JLCPCB Part Type: Basic Part
footprint RES 1608 (0603_inch) (Chip Resistor, 2-Leads, Body 1.60x0.80mm, IPC Medium Density)
pins: 1, 2

## RES_39.2K/1608/0.1W
designator R?, comment 39.2K/1608
RES_39.2K/1608/0.1W; Value: 39.2K; Power Rating: 0.1W; Precision: 1%; Size: 1608; LCSC Part #: C137734; JLCPCB Part Type: Extended Part
footprint RES 1608 (0603_inch) (Chip Resistor, 2-Leads, Body 1.60x0.80mm, IPC Medium Density)
pins: 1, 2

## RES_45.3K/1608/0.1W
designator R?, comment 45.3K/1608
RES_45.3K/1608/0.1W; Value: 45.3K; Power Rating: 0.1W; Precision: 1%; Size: 1608; LCSC Part #: C304756; JLCPCB Part Type: Extended Part
footprint RES 1608 (0603_inch) (Chip Resistor, 2-Leads, Body 1.60x0.80mm, IPC Medium Density)
pins: 1, 2

## RES_47K/1608/0.1W
designator R?, comment 47K/1608
RES_47K/1608/0.1W; Value: 47K; Power Rating: 0.1W; Precision: 1%; Size: 1608; LCSC Part #: C25819; JLCPCB Part Type: Basic Part
footprint RES 1608 (0603_inch) (Chip Resistor, 2-Leads, Body 1.60x0.80mm, IPC Medium Density)
pins: 1, 2

## RES_47R/1608/0.1W
designator R?, comment 47R/1608
RES_47R/1608/0.1W; Value: 47R; Power Rating: 0.1W; Precision: 1%; Size: 1608; LCSC Part #: C23182; JLCPCB Part Type: Basic Part
footprint RES 1608 (0603_inch) (Chip Resistor, 2-Leads, Body 1.60x0.80mm, IPC Medium Density)
pins: 1, 2

## RES_49.9R/1005/62.5mW
designator R?, comment 49.9R/1005
RES_49.9R/1005/62.5mW; Value: 49.9R; Power Rating: 62.5mW; Precision: 1%; Size: 1005; LCSC Part #: C25120; JLCPCB Part Type: Basic Part
footprint RES 1005 (0402_inch) (Chip Resistor, 2-Leads, Body 1.0x0.5mm, IPC Medium Density)
pins: 1, 2

## RES_51K/1608/0.1W
designator R?, comment 51K/1608
RES_51K/1608/0.1W; Value: 51K; Power Rating: 0.1W; Precision: 1%; Size: 1608; LCSC Part #: C23196; JLCPCB Part Type: Basic Part
footprint RES 1608 (0603_inch) (Chip Resistor, 2-Leads, Body 1.60x0.80mm, IPC Medium Density)
pins: 1, 2

## RES_51R/1005/62.5mW
designator R?, comment 51R/1005
RES_51R/1005/62.5mW; Value: 51R; Power Rating: 62.5mW; Precision: 1%; Size: 1005; LCSC Part #: C965248; JLCPCB Part Type: Extended Part
footprint RES 1005 (0402_inch) (Chip Resistor, 2-Leads, Body 1.0x0.5mm, IPC Medium Density)
pins: 1, 2

## RES_56K/1608/0.1W
designator R?, comment 56K/1608
RES_56K/1608/0.1W; Value: 56K; Power Rating: 0.1W; Precision: 1%; Size: 1608; LCSC Part #: C23206; JLCPCB Part Type: Basic Part
footprint RES 1608 (0603_inch) (Chip Resistor, 2-Leads, Body 1.60x0.80mm, IPC Medium Density)
pins: 1, 2

## RES_68K/1608/0.1W
designator R?, comment 68K/1608
RES_68K/1608/0.1W; Value: 68K; Power Rating: 0.1W; Precision: 1%; Size: 1608; LCSC Part #: C23231; JLCPCB Part Type: Basic Part
footprint RES 1608 (0603_inch) (Chip Resistor, 2-Leads, Body 1.60x0.80mm, IPC Medium Density)
pins: 1, 2

## RES_91K/1608/0.1W
designator R?, comment 91K/1608
RES_91K/1608/0.1W; Value: 91K; Power Rating: 0.1W; Precision: 1%; Size: 1608; LCSC Part #: C23265; JLCPCB Part Type: Basic Part
footprint RES 1608 (0603_inch) (Chip Resistor, 2-Leads, Body 1.60x0.80mm, IPC Medium Density)
pins: 1, 2

## RES_93.1K/1608/0.1W
designator R?, comment 93.1K/1608
RES_93.1K/1608/0.1W; Value: 93.1K; Power Rating: 0.1W; Precision: 1%; Size: 1608; LCSC Part #: C228101; JLCPCB Part Type: Extended Part
footprint RES 1608 (0603_inch) (Chip Resistor, 2-Leads, Body 1.60x0.80mm, IPC Medium Density)
pins: 1, 2

## RES_100K/1005/62.5mW
designator R?, comment 100K/1005
RES_100K/1005/62.5mW; Value: 100K; Power Rating: 62.5mW; Precision: 1%; Size: 1005; LCSC Part #: C25741; JLCPCB Part Type: Basic Part
footprint RES 1005 (0402_inch) (Chip Resistor, 2-Leads, Body 1.0x0.5mm, IPC Medium Density)
pins: 1, 2

## RES_100K/1608/0.1W
designator R?, comment 100K/1608
RES_100K/1608/0.1W; Value: 100K; Power Rating: 0.1W; Precision: 1%; Size: 1608; LCSC Part #: C25803; JLCPCB Part Type: Basic Part
footprint RES 1608 (0603_inch) (Chip Resistor, 2-Leads, Body 1.60x0.80mm, IPC Medium Density)
pins: 1, 2

## RES_100K/3216/0.25W
designator R?, comment 100K/3216
RES_100K/3216/0.25W; Value: 100K; Power Rating: 0.25W; Precision: 1%; Size: 3216; LCSC Part #: C17900; JLCPCB Part Type: Basic Part
footprint RES 3216 (1206_inch) (Chip Resistor, 2-Leads, Body 3.13x1.55mm, IPC Medium Density)
pins: 1, 2

## RES_100R/1005/62.5mW
designator R?, comment 100R/1005
RES_100R/1005/62.5mW; Value: 100R; Power Rating: 62.5mW; Precision: 1%; Size: 1005; LCSC Part #: C25076; JLCPCB Part Type: Basic Part
footprint RES 1005 (0402_inch) (Chip Resistor, 2-Leads, Body 1.0x0.5mm, IPC Medium Density)
pins: 1, 2

## RES_100R/1608/0.1W
designator R?, comment 100R/1608
RES_100R/1608/0.1W; Value: 100R; Power Rating: 0.1W; Precision: 1%; Size: 1608; LCSC Part #: C22775; JLCPCB Part Type: Basic Part
footprint RES 1608 (0603_inch) (Chip Resistor, 2-Leads, Body 1.60x0.80mm, IPC Medium Density)
pins: 1, 2

## RES_100R/2012/0.125W
designator R?, comment 100R/2012
RES_100R/2012/0.125W; Value: 100R; Power Rating: 0.125W; Precision: 1%; Size: 2012; LCSC Part #: C17408; JLCPCB Part Type: Basic Part
footprint RES 2012 (0805_inch) (Chip Resistor, 2-Leads, Body 2.00x1.25mm, IPC Medium Density)
pins: 1, 2

## RES_100R/3216/0.25W
designator R?, comment 100R/3216
RES_100R/3216/0.25W; Value: 100R; Power Rating: 0.25W; Precision: 1%; Size: 3216; LCSC Part #: C17901; JLCPCB Part Type: Basic Part
footprint RES 3216 (1206_inch) (Chip Resistor, 2-Leads, Body 3.13x1.55mm, IPC Medium Density)
pins: 1, 2

## RES_120R/1005/62.5mW
designator R?, comment 120R/1005
RES_120R/1005/62.5mW; Value: 120R; Power Rating: 62.5mW; Precision: 1%; Size: 1005; LCSC Part #: C25079; JLCPCB Part Type: Basic Part
footprint RES 1005 (0402_inch) (Chip Resistor, 2-Leads, Body 1.0x0.5mm, IPC Medium Density)
pins: 1, 2

## RES_120R/1608/0.1W
designator R?, comment 120R/1608
RES_120R/1608/0.1W; Value: 120R; Power Rating: 0.1W; Precision: 1%; Size: 1608; LCSC Part #: C22787; JLCPCB Part Type: Basic Part
footprint RES 1608 (0603_inch) (Chip Resistor, 2-Leads, Body 1.60x0.80mm, IPC Medium Density)
pins: 1, 2

## RES_124K/1608/0.1W
designator R?, comment 124K/1608
RES_124K/1608/0.1W; Value: 124K; Power Rating: 0.1W; Precision: 1%; Size: 1608; LCSC Part #: C140118; JLCPCB Part Type: Extended Part
footprint RES 1608 (0603_inch) (Chip Resistor, 2-Leads, Body 1.60x0.80mm, IPC Medium Density)
pins: 1, 2

## RES_150K/1608/0.1W
designator R?, comment 150K/1608
RES_150K/1608/0.1W; Value: 150K; Power Rating: 0.1W; Precision: 1%; Size: 1608; LCSC Part #: C22807; JLCPCB Part Type: Basic Part
footprint RES 1608 (0603_inch) (Chip Resistor, 2-Leads, Body 1.60x0.80mm, IPC Medium Density)
pins: 1, 2

## RES_150R/1608/0.1W
designator R?, comment 150R/1608
RES_150R/1608/0.1W; Value: 150R; Power Rating: 0.1W; Precision: 1%; Size: 1608; LCSC Part #: C22808; JLCPCB Part Type: Basic Part
footprint RES 1608 (0603_inch) (Chip Resistor, 2-Leads, Body 1.60x0.80mm, IPC Medium Density)
pins: 1, 2

## RES_150R/2012/0.125W
designator R?, comment 150R/2012
RES_150R/2012/0.125W; Value: 150R; Power Rating: 0.1W; Precision: 1%; Size: 1608; LCSC Part #: C17471; JLCPCB Part Type: Basic Part
footprint RES 2012 (0805_inch) (Chip Resistor, 2-Leads, Body 2.00x1.25mm, IPC Medium Density)
pins: 1, 2

## RES_180R/1608/0.1W
designator R?, comment 180R/1608
RES_180R/1608/0.1W; Value: 180R; Power Rating: 0.1W; Precision: 1%; Size: 1608; LCSC Part #: C22828; JLCPCB Part Type: Basic Part
footprint RES 1608 (0603_inch) (Chip Resistor, 2-Leads, Body 1.60x0.80mm, IPC Medium Density)
pins: 1, 2

## RES_200K/1608/0.1W
designator R?, comment 200K/1608
RES_200K/1608/0.1W; Value: 200K; Power Rating: 0.1W; Precision: 1%; Size: 1608; LCSC Part #: C25811; JLCPCB Part Type: Basic Part
footprint RES 1608 (0603_inch) (Chip Resistor, 2-Leads, Body 1.60x0.80mm, IPC Medium Density)
pins: 1, 2

## RES_220K/1608/0.1W
designator R?, comment 220K/1608
RES_220K/1608/0.1W; Value: 220K; Power Rating: 0.1W; Precision: 1%; Size: 1608; LCSC Part #: C22961; JLCPCB Part Type: Basic Part
footprint RES 1608 (0603_inch) (Chip Resistor, 2-Leads, Body 1.60x0.80mm, IPC Medium Density)
pins: 1, 2

## RES_220R/1608/0.1W
designator R?, comment 220R/1608
RES_220R/1608/0.1W; Value: 220R; Power Rating: 0.1W; Precision: 1%; Size: 1608; LCSC Part #: C17557; JLCPCB Part Type: Basic Part
footprint RES 1608 (0603_inch) (Chip Resistor, 2-Leads, Body 1.60x0.80mm, IPC Medium Density)
pins: 1, 2

## RES_220R/2012/0.125W
designator R?, comment 220R/2012
RES_220R/2012/0.125W; Value: 220R; Power Rating: 0.125W; Precision: 1%; Size: 2012; LCSC Part #: C17557; JLCPCB Part Type: Basic Part
footprint RES 2012 (0805_inch) (Chip Resistor, 2-Leads, Body 2.00x1.25mm, IPC Medium Density)
pins: 1, 2

## RES_240R/1608/0.1W
designator R?, comment 240R/1608
RES_240R/1608/0.1W; Value: 240R; Power Rating: 0.1W; Precision: 1%; Size: 1608; LCSC Part #: C23350; JLCPCB Part Type: Basic Part
footprint RES 1608 (0603_inch) (Chip Resistor, 2-Leads, Body 1.60x0.80mm, IPC Medium Density)
pins: 1, 2

## RES_240R/2012/0.125W
designator R?, comment 240R/2012
RES_240R/2012/0.125W; Value: 240R; Power Rating: 0.125W; Precision: 1%; Size: 2012; LCSC Part #: C17572; JLCPCB Part Type: Basic Part
footprint RES 2012 (0805_inch) (Chip Resistor, 2-Leads, Body 2.00x1.25mm, IPC Medium Density)
pins: 1, 2

## RES_300R/1608/0.1W
designator R?, comment 300R/1608
RES_300R/1608/0.1W; Value: 300R; Power Rating: 0.1W; Precision: 1%; Size: 1608; LCSC Part #: C23025; JLCPCB Part Type: Basic Part
footprint RES 1608 (0603_inch) (Chip Resistor, 2-Leads, Body 1.60x0.80mm, IPC Medium Density)
pins: 1, 2

## RES_330K/1608/0.1W
designator R?, comment 330K/1608
RES_330K/1608/0.1W; Value: 330K; Power Rating: 0.1W; Precision: 1%; Size: 1608; LCSC Part #: C23137; JLCPCB Part Type: Basic Part
footprint RES 1608 (0603_inch) (Chip Resistor, 2-Leads, Body 1.60x0.80mm, IPC Medium Density)
pins: 1, 2

## RES_330R/1608/0.1W
designator R?, comment 330R/1608
RES_330R/1608/0.1W; Value: 330R; Power Rating: 0.1W; Precision: 1%; Size: 1608; LCSC Part #: C23138; JLCPCB Part Type: Basic Part
footprint RES 1608 (0603_inch) (Chip Resistor, 2-Leads, Body 1.60x0.80mm, IPC Medium Density)
pins: 1, 2

## RES_330R/2012/0.125W
designator R?, comment 330R/2012
RES_330R/2012/0.125W; Value: 330R; Power Rating: 0.125W; Precision: 1%; Size: 2012; LCSC Part #: C17630; JLCPCB Part Type: Basic Part
footprint RES 2012 (0805_inch) (Chip Resistor, 2-Leads, Body 2.00x1.25mm, IPC Medium Density)
pins: 1, 2

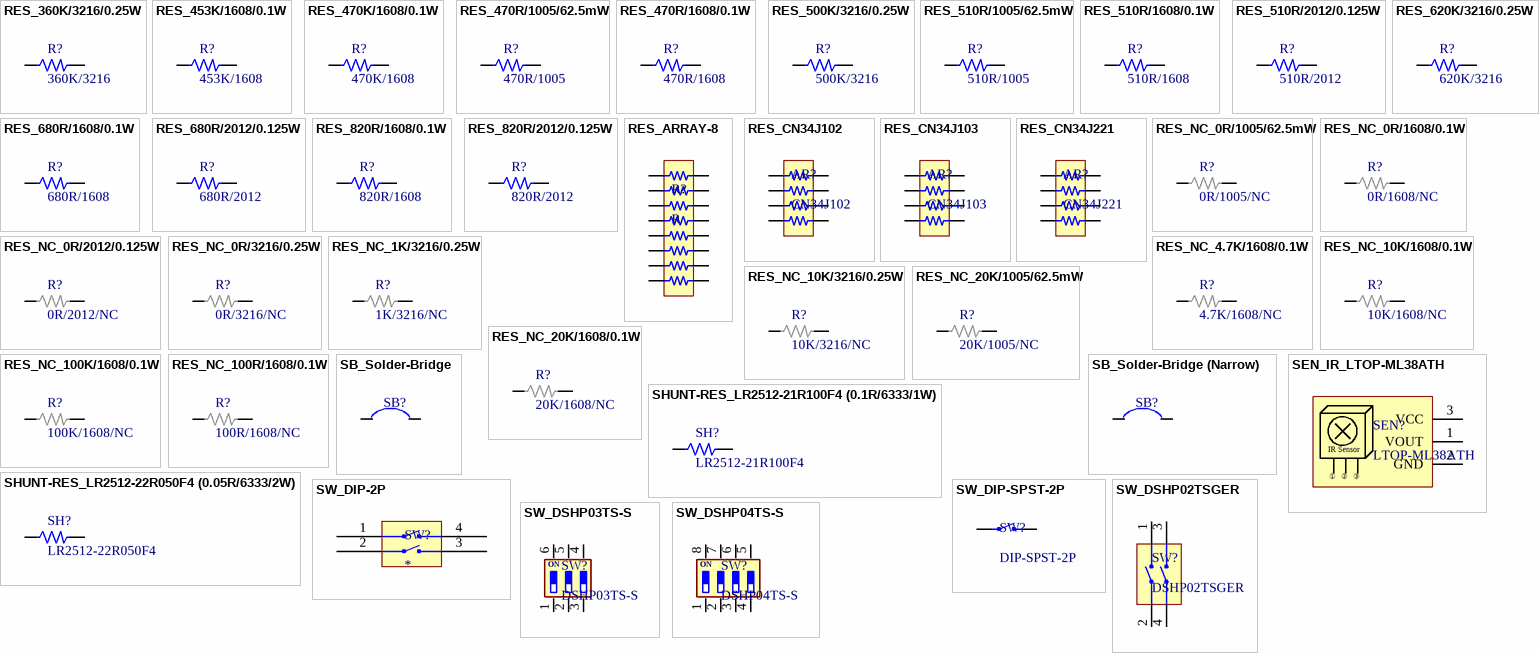
[diagram p24: symbols RES_360K/3216/0.25W to SW_DSHP04TS-S]

## RES_360K/3216/0.25W
designator R?, comment 360K/3216
RES_360K/3216/0.25W; Value: 360k; Power Rating: 0.25W; Precision: 1%; Size: 3216; LCSC Part #: C17931; JLCPCB Part Type: Extended Part
footprint RES 3216 (1206_inch) (Chip Resistor, 2-Leads, Body 3.13x1.55mm, IPC Medium Density)
pins: 1, 2

## RES_453K/1608/0.1W
designator R?, comment 453K/1608
RES_453K/1608/0.1W; Value: 453K; Power Rating: 0.1W; Precision: 1%; Size: 1608; LCSC Part #: C25818; JLCPCB Part Type: Extended Part
footprint RES 1608 (0603_inch) (Chip Resistor, 2-Leads, Body 1.60x0.80mm, IPC Medium Density)
pins: 1, 2

## RES_470K/1608/0.1W
designator R?, comment 470K/1608
RES_470K/1608/0.1W; Value: 470K; Power Rating: 0.1W; Precision: 1%; Size: 1608; LCSC Part #: C23178; JLCPCB Part Type: Basic Part
footprint RES 1608 (0603_inch) (Chip Resistor, 2-Leads, Body 1.60x0.80mm, IPC Medium Density)
pins: 1, 2

## RES_470R/1005/62.5mW
designator R?, comment 470R/1005
RES_470R/1005/62.5mW; Value: 470R; Power Rating: 62.5mW; Precision: 1%; Size: 1005; LCSC Part #: C25117; JLCPCB Part Type: Basic Part
footprint RES 1005 (0402_inch) (Chip Resistor, 2-Leads, Body 1.0x0.5mm, IPC Medium Density)
pins: 1, 2

## RES_470R/1608/0.1W
designator R?, comment 470R/1608
RES_470R/1608/0.1W; Value: 470R; Power Rating: 0.1W; Precision: 1%; Size: 1608; LCSC Part #: C23179; JLCPCB Part Type: Basic Part
footprint RES 1608 (0603_inch) (Chip Resistor, 2-Leads, Body 1.60x0.80mm, IPC Medium Density)
pins: 1, 2

## RES_500K/3216/0.25W
designator R?, comment 500K/3216
RES_500K/3216/0.25W; Value: 500K; Power Rating: 0.25W; Precision: 1%; Size: 3216; LCSC Part #: C17990; JLCPCB Part Type: Extended Part
footprint RES 3216 (1206_inch) (Chip Resistor, 2-Leads, Body 3.13x1.55mm, IPC Medium Density)
pins: 1, 2

## RES_510R/1005/62.5mW
designator R?, comment 510R/1005
RES_510R/1005/62.5mW; Value: 510R; Power Rating: 62.5mW; Precision: 1%; Size: 1005; LCSC Part #: C25123; JLCPCB Part Type: Basic Part
footprint RES 1005 (0402_inch) (Chip Resistor, 2-Leads, Body 1.0x0.5mm, IPC Medium Density)
pins: 1, 2

## RES_510R/1608/0.1W
designator R?, comment 510R/1608
RES_510R/1608/0.1W; Value: 510R; Power Rating: 0.1W; Precision: 1%; Size: 1608; LCSC Part #: C23193; JLCPCB Part Type: Basic Part
footprint RES 1608 (0603_inch) (Chip Resistor, 2-Leads, Body 1.60x0.80mm, IPC Medium Density)
pins: 1, 2

## RES_510R/2012/0.125W
designator R?, comment 510R/2012
RES_510R/2012/0.125W; Value: 510R; Power Rating: 0.125W; Precision: 1%; Size: 2012; LCSC Part #: C17734; JLCPCB Part Type: Basic Part
footprint RES 2012 (0805_inch) (Chip Resistor, 2-Leads, Body 2.00x1.25mm, IPC Medium Density)
pins: 1, 2

## RES_620K/3216/0.25W
designator R?, comment 620K/3216
RES_620K/3216/0.25W; Value: 620k; Power Rating: 0.25W; Precision: 1%; Size: 3216; LCSC Part #: C17972; JLCPCB Part Type: Extended Part
footprint RES 3216 (1206_inch) (Chip Resistor, 2-Leads, Body 3.13x1.55mm, IPC Medium Density)
pins: 1, 2

## RES_680R/1608/0.1W
designator R?, comment 680R/1608
RES_680R/1608/0.1W; Value: 680R; Power Rating: 0.1W; Precision: 1%; Size: 1608; LCSC Part #: C23228; JLCPCB Part Type: Basic Part
footprint RES 1608 (0603_inch) (Chip Resistor, 2-Leads, Body 1.60x0.80mm, IPC Medium Density)
pins: 1, 2

## RES_680R/2012/0.125W
designator R?, comment 680R/2012
RES_680R/2012/0.125W; Value: 680R; Power Rating: 0.125W; Precision: 1%; Size: 2012; LCSC Part #: C17798; JLCPCB Part Type: Basic Part
footprint RES 2012 (0805_inch) (Chip Resistor, 2-Leads, Body 2.00x1.25mm, IPC Medium Density)
pins: 1, 2

## RES_820R/1608/0.1W
designator R?, comment 820R/1608
RES_820R/1608/0.1W; Value: 820R; Power Rating: 0.1W; Precision: 1%; Size: 1608; LCSC Part #: C23253; JLCPCB Part Type: Basic Part
footprint RES 1608 (0603_inch) (Chip Resistor, 2-Leads, Body 1.60x0.80mm, IPC Medium Density)
pins: 1, 2

## RES_820R/2012/0.125W
designator R?, comment 820R/2012
RES_820R/2012/0.125W; Value: 820R; Power Rating: 0.125W; Precision: 1%; Size: 2012; LCSC Part #: C17837; JLCPCB Part Type: Basic Part
footprint RES 2012 (0805_inch) (Chip Resistor, 2-Leads, Body 2.00x1.25mm, IPC Medium Density)
pins: 1, 2

## RES_ARRAY-8
designator R?, comment R
SMT Resistor Array
pins: 1, 2, 3, 4, 5 6, 6, 7, 8, 9, 10, 11, 12, 13, 14, 15, 16

## RES_CN34J102
designator AR?, comment CN34J102
1kohm Array Resistor / Size 3216 / 5%
pins: 1, 2, 3, 4, 5, 6, 7, 8

## RES_CN34J103
designator AR?, comment CN34J103
10kohm Array Resistor / Size 3216 / 5%
pins: 1, 2, 3, 4, 5, 6, 7, 8

## RES_CN34J221
designator AR?, comment CN34J221
220ohm Array Resistor / Size 3216 / 5%
pins: 1, 2, 3, 4, 5, 6, 7, 8

## RES_NC_0R/1005/62.5mW
designator R?, comment 0R/1005/NC
RES_0R/1005/62.5mW/NC; Value: 0R; Power Rating: 62.5mW; Precision: 1%; Size: 1005
footprint RES 1005 (0402_inch)/NC (Chip Resistor, 2-Leads, Body 1.0x0.5mm, IPC Medium Density)
pins: 1, 2

## RES_NC_0R/1608/0.1W
designator R?, comment 0R/1608/NC
0R/1608/0.1W/NC; Value: 0R; Power Rating: 0.1W; Precision: 1%; Size: 1608
footprint RES 1608 (0603_inch)/NC (Chip Resistor, 2-Leads, Body 1.60x0.80mm, IPC Medium Density)
pins: 1, 2

## RES_NC_0R/2012/0.125W
designator R?, comment 0R/2012/NC
0R/2012/0.125W/NC; Value: 0R; Power Rating: 0.1W; Precision: 1%; Size: 1608
footprint RES 2012 (0805_INCH)/NC (Chip Resistor, 2-Leads, Body 2.00x1.25mm, IPC Medium Density)
pins: 1, 2

## RES_NC_0R/3216/0.25W
designator R?, comment 0R/3216/NC
Value: 0R; Power Rating: 0.1W; Precision: 1%; Size: 1608
footprint RES 3216 (1206_INCH)/NC (Chip Resistor, 2-Leads, Body 3.13x1.55mm, IPC Medium Density)
pins: 1, 2

## RES_NC_1K/3216/0.25W
designator R?, comment 1K/3216/NC
Value: 0R; Power Rating: 0.1W; Precision: 1%; Size: 1608
footprint RES 3216 (1206_INCH)/NC (Chip Resistor, 2-Leads, Body 3.13x1.55mm, IPC Medium Density)
pins: 1, 2

## RES_NC_4.7K/1608/0.1W
designator R?, comment 4.7K/1608/NC
RES_4.7K/1608/0.1W; Value: 4.7K; Power Rating: 0.1W; Precision: 1%; Size: 1608
footprint RES 1608 (0603_inch)/NC (Chip Resistor, 2-Leads, Body 1.60x0.80mm, IPC Medium Density)
pins: 1, 2

## RES_NC_10K/1608/0.1W
designator R?, comment 10K/1608/NC
RES_10K/1608/0.1W; Value: 10K; Power Rating: 0.1W; Precision: 1%; Size: 1608
footprint RES 1608 (0603_inch)/NC (Chip Resistor, 2-Leads, Body 1.60x0.80mm, IPC Medium Density)
pins: 1, 2

## RES_NC_10K/3216/0.25W
designator R?, comment 10K/3216/NC
Value: 0R; Power Rating: 0.1W; Precision: 1%; Size: 1608
footprint RES 3216 (1206_INCH)/NC (Chip Resistor, 2-Leads, Body 3.13x1.55mm, IPC Medium Density)
pins: 1, 2

## RES_NC_20K/1005/62.5mW
designator R?, comment 20K/1005/NC
RES_20K/1005/62.5mW/NC; Value: 20K; Power Rating: 62.5mW; Precision: 1%; Size: 1005
footprint RES 1005 (0402_inch)/NC (Chip Resistor, 2-Leads, Body 1.0x0.5mm, IPC Medium Density)
pins: 1, 2

## RES_NC_20K/1608/0.1W
designator R?, comment 20K/1608/NC
RES_20K/1608/0.1W; Value: 100R; Power Rating: 0.1W; Precision: 1%; Size: 1608
footprint RES 1608 (0603_inch)/NC (Chip Resistor, 2-Leads, Body 1.60x0.80mm, IPC Medium Density)
pins: 1, 2

## RES_NC_100K/1608/0.1W
designator R?, comment 100K/1608/NC
RES_100K/1608/0.1W; Value: 100K; Power Rating: 0.1W; Precision: 1%; Size: 1608
footprint RES 1608 (0603_inch)/NC (Chip Resistor, 2-Leads, Body 1.60x0.80mm, IPC Medium Density)
pins: 1, 2

## RES_NC_100R/1608/0.1W
designator R?, comment 100R/1608/NC
RES_100R/1608/0.1W; Value: 100R; Power Rating: 0.1W; Precision: 1%; Size: 1608
footprint RES 1608 (0603_inch)/NC (Chip Resistor, 2-Leads, Body 1.60x0.80mm, IPC Medium Density)
pins: 1, 2

## SB_Solder-Bridge
designator SB?, comment SB  (value not drawn)
SB_Solder-Bridge
footprint SB (Solder-Bridge)
pins: 1, 2

## SB_Solder-Bridge (Narrow)
designator SB?, comment SB  (value not drawn)
SB_Solder-Bridge
footprint SB_Solder-Bridge (Narrow) (SB (Solder-Bridge))
pins: 1, 2

## SEN_IR_LTOP-ML38ATH
designator SEN?, comment LTOP-ML38ATH
footprint SEN_IR-LTOP-ML38ATH (IR SENSOR 38kHz)
pins: 1 VOUT, 2 GND, 3 VCC
text: IR Sensor; ①; ②; ③

## SHUNT-RES_LR2512-21R100F4 (0.1R/6333/1W)
designator SH?, comment LR2512-21R100F4
LR2512-21R100F4 / 0.1Ω ±1% / Metal Alloy Low resistance Current Sensing Resistor; Value: 0.1R; Power Rating: 1W; Size: 6333; Precision: 1%
footprint RES SHUNT LR2512 (6.3X3.3mm)
pins: 1, 2

## SHUNT-RES_LR2512-22R050F4 (0.05R/6333/2W)
designator SH?, comment LR2512-22R050F4
LR2512-22R050F4 / 0.05Ω ±1% / Metal Alloy Low resistance Current Sensing Resistor; Value: 0.05R; Power Rating: 2W; Size: 6333; Precision: 1%
footprint RES SHUNT LR2512 (6.3X3.3mm)
pins: 1, 2

## SW_DIP-2P
designator SW?
pins: 1 GND, 2 GND, 3 GND, 4 GND

## SW_DIP-SPST-2P
designator SW?, comment DIP-SPST-2P
SW_DIP-SPST-2P
pins: 1, 2

## SW_DSHP02TSGER
designator SW?, comment DSHP02TSGER
SMD  DIP Switches ROHS; LCSC Part #: C3293142; JLCPCB Part Type: Extended Part
footprint SW DSHP02TSGER (SMD  DIP Switches ROHS)
pins: 1, 2, 3, 4

## SW_DSHP03TS-S
designator SW?, comment DSHP03TS-S
3Bit SPST 24V 25mA Black 3000次 Slide (Standard), SMD-6P,5.4x5.4mm  DIP Switches ROHS; LCSC Part #: C319051; JLCPCB Part Type: Extended Part
pins: 1, 2, 3, 4, 5, 6
text: ON

## SW_DSHP04TS-S
designator SW?, comment DSHP04TS-S
4Bit SPST 24V 25mA Black 3千次 Slide (Standard),凹槽式 SMD-8P,5.4x6.7mm  DIP Switches ROHS; LCSC Part #: C319050; JLCPCB Part Type: Extended Part
footprint SW_DSHP04TS-S (SMD  DIP Switches ROHS)
pins: 1, 2, 3, 4, 5, 6, 7, 8
text: ON

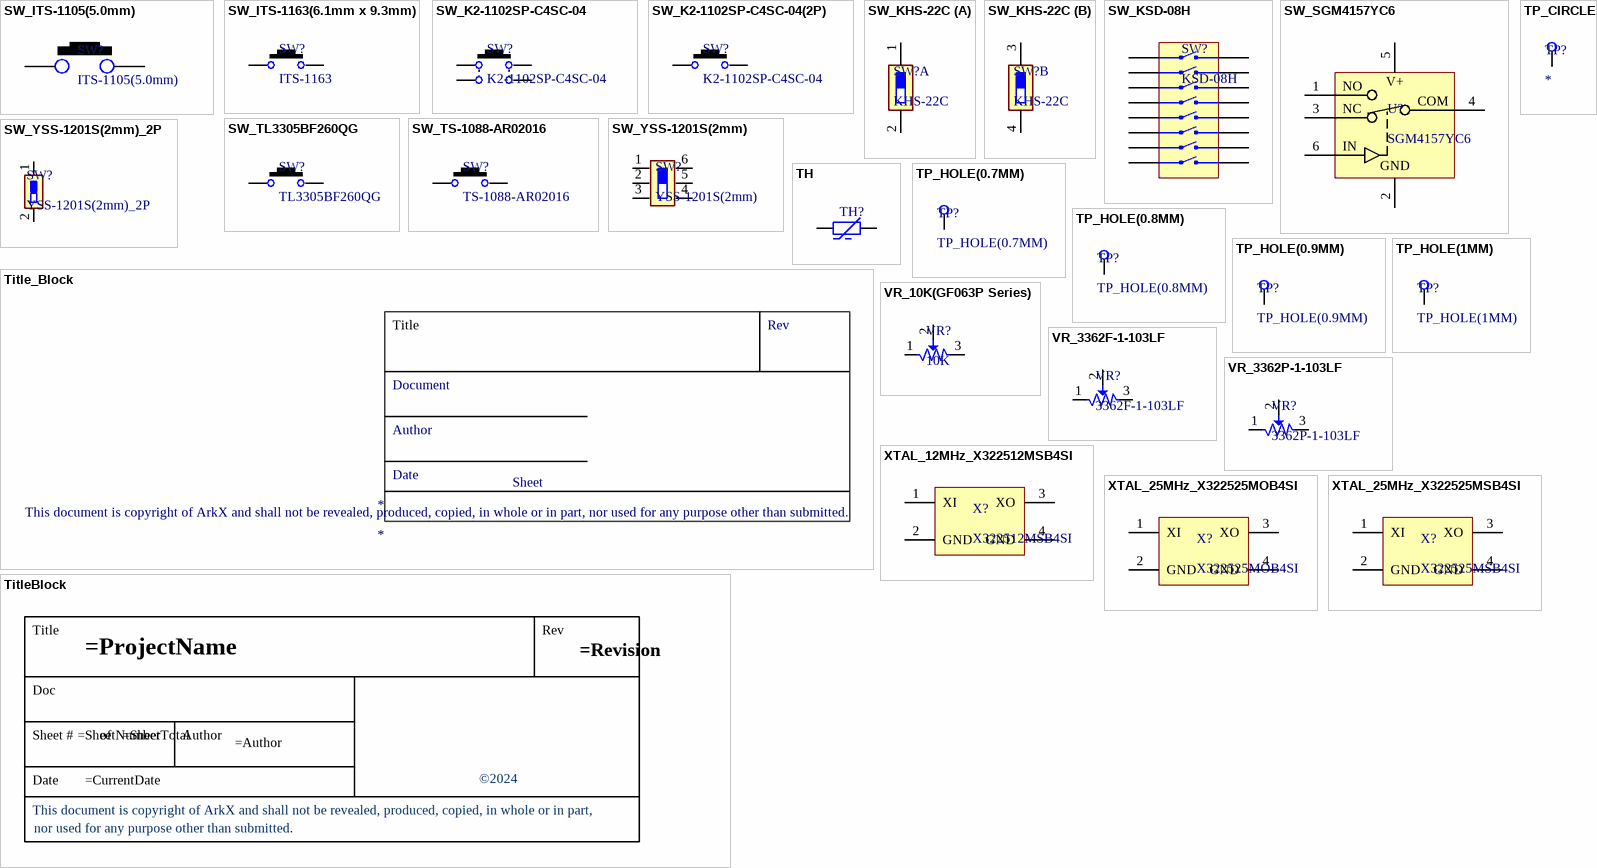
[diagram p25: symbols SW_ITS-1105(5.0mm) to XTAL_25MHz_X322525MSB4SI]

## SW_ITS-1105(5.0mm)
designator SW?, comment ITS-1105(5.0mm)
TACT SW(SMD) / DC 12V / 50mA / 6mm*6mm/ H:5mm
pins: 1, 2

## SW_ITS-1163(6.1mm x 9.3mm)
designator SW?, comment ITS-1163
TACT SW(SMD) / DC 12V / 50mA / 6.1mm x 9.3mm
footprint SW PTS636 SMG25J SMTR LFS (TACT 6.0 X 3.5, 2.5 MM H, 180GF,)
pins: 1, 2

## SW_K2-1102SP-C4SC-04
designator SW?, comment K2-1102SP-C4SC-04
-25℃~+85℃ 6mm 5mm Round Button 50mA Brick nogging 6mm SPST 100MΩ 100000 250gf@±30gf 12V SMD  Tactile Switches ROHS; LCSC Part #: C127509; JLCPCB Part Type: Extended Part
footprint SW K2-1102SP-C4SC-04 (-25℃~+85℃ 6mm 5mm Round Button 50mA Brick nogging 6mm SPST 100MΩ 100000 250gf@±30gf 12V SMD  Tactile Switches ROHS)
pins: 1, 2, 3, 4